# EAGLE library part MOSFET_ARRAY_EMK34 (library PiezoFFC)
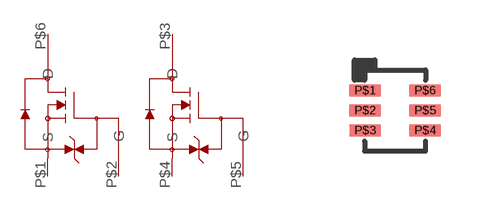
[diagram p2: symbol with the pads of SOT-563; footprint SOT-563]

Designator prefix -; gates G$1=LEVEL_SHIFT_NCH_MOSFET G$2=LEVEL_SHIFT_NCH_MOSFET

## MOSFET_ARRAY_EMK34  [SOT-563]
P$1  G$1:S
P$2  G$1:G
P$3  G$2:D
P$4  G$2:S
P$5  G$2:G
P$6  G$1:D

## Footprint SOT-563 (pad centres in mm)
smd 0.8 x 0.3: P$1 -0.75,0.5; P$2 -0.75,0; P$3 -0.75,-0.5; P$4 0.75,-0.5; P$5 0.75,0; P$6 0.75,0.5